# EAGLE library part OPT3001DNPT (library ALS_OPT3001)
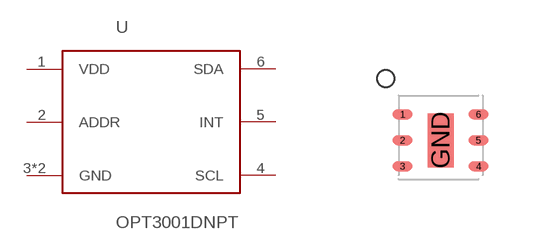
[diagram p0: symbol with the pads of 6PIN_USON; footprint 6PIN_USON]

Designator prefix -

## OPT3001DNPT  [6PIN_USON]
1  VDD
2  ADDR
3  GND
4  SCL
5  INT
6  SDA
GND  GND

## Footprint 6PIN_USON (pad centres in mm)
smd 0.5 x 0.25: 1 0.1,1.625; 2 0.1,0.975; 3 0.1,0.325; 4 2,0.325; 5 2,0.975; 6 2,1.625
smd 0.65 x 1.35: GND 1.05,0.975